# Altium schematic symbol library DC309A.SCHLIB: 110 symbols (part 1 of 3)
Pins are listed as number, name and electrical type; pins without a type are passive.

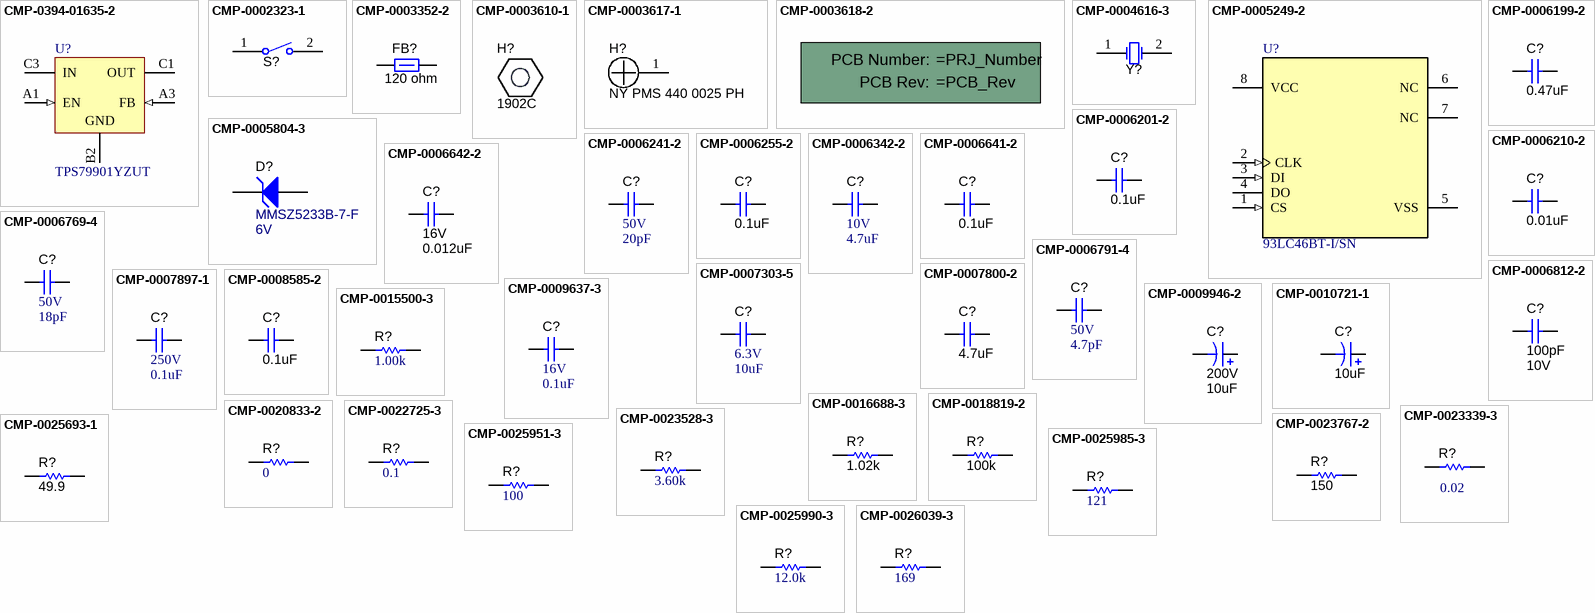
[diagram p0: symbols CMP-0394-01635-2 to CMP-0026039-3]

## CMP-0394-01635-2
designator U?, comment TPS79901YZUT
Single Output High PSRR LDO, 200 mA, Adjustable 1.2 to 6.5 V Output, 2.7 to 6.5 V Input, with Low IQ, 5-pin DSBGA (YZU), -40 to 85 degC, Green (RoHS & no Sb/Br); Manufacturer: Texas Instruments; Vdo(Typ)(mV): 90; Vin(Min)(V): 2.7; Iq(Typ)(mA): 0.04; Vout Adj(Max)(V): 6.5; Accuracy(%): 2; Vout Adj(Min)(V): 1.2; Iout(Max)(A): 0.2; SubFamily: Single Channel LDO; Rating: Catalog; Eco-Plan: Green (RoHS & no Sb/Br); ComponentLink4Description: URL Link1; DatasheetVersion: SBVS056J; ComponentLink3URL: http://www.ti.com/litv/pdf/mpds018i; PackageReference: YZU0005AEBC; PackageVersion: 4205678/D; Vin(Max)(V): 6.5; PackageDescription: 5-Pin Silicon Grid Array, Body 1.337 x 0.971 mm, Pitch 0.25 mm; PartNumber: TPS79901YZUT; ComponentLink2Description: Datasheet; ComponentLink3Description: Package Specification; ComponentLink4URL: Samples URL:http://www.ti.com/product/tps79901#samples; Mounting Technology: Surface Mount; ComponentLink2URL: http://www.ti.com/general/docs/lit/getliterature.tsp?genericPartNumber=TPS79901&fileType=pdf; ComponentLink1URL: http://www.ti.com/; ComponentLink1Description: Manufacturer URL
footprint YZU0005AEBC (BGA, 5-Balls, Body 1.332x0.964mm, Pitch 0.25mm)
pins: A1 EN (in) "Driving the enable pin (EN) high turns on the regulator.Driving this pin low puts the regulator into shutdown mode.EN can be connected to IN if not used.", A3 FB (in) "Adjustable version only;this pin is the input to the control loop error amplifier, and is used to set the output voltage of the device", B2 GND (power) "Ground.", C1 OUT (power) "Output of the regulator.A small capacitor (total typical capacitance >= 2.0uF ceramic) is needed from this pin to ground to assure stability.", C3 IN (power) "Input supply."

## CMP-0002323-1
designator S?, comment SW_SPST-single  (value not drawn)
Switch, SPST-NO, Off-Mom, 0.05 A, 12 VDC, SMD; PartNumber: EVQ-5PN04K; Manufacturer: Panasonic; SizeAreaWB_mm2: 50.6; SizeArea_mm2: 25.2; SizeX_mm: 7.2; SizeY_mm: 3.5; SizeZ_mm: 4.3; VDC_V: 12V; PositionCount: 1; CurrentRating_mA: 50A; MountType: SMT; ComponentLink1Description: Datasheet URL; ComponentLink1URL: http://industrial.panasonic.com/cdbs/www-data/pdf/ATK0000/ATK0000CE7.pdf; RoHS: Y; Circuit: SPST-NO; SwitchFunction: Off-Mom; Orientation: Top Actuated; CompType: Switch; PackageReference: 6x3.5mm; Publisher: Texas Instruments; LatestRevisionDate: 2017-03-09; Supplier 1: Digi-Key; Supplier Part Number 1: P13595SCT-ND; Supplier 2: Newark; Supplier Part Number 2: 83T2844; Supplier 3: Mouser; Supplier Part Number 3: 667-EVQ-5PN04K
footprint SW_EVQ5PN04K (SMD, 2-Leads, Body 6x3.5mm)
pins: 1, 2

## CMP-0003352-2
designator FB?, comment value 120 ohm  (hidden comment: Ferrite_Bead)
Ferrite Bead, 120 ohm @ 100 MHz, 3 A, 0603; PartNumber: BLM18SG121TN1D; Manufacturer: MuRata; Imax_A: 3A; DCR_ohm: 0.025; Value1: 0.025 ohm; ZTyp@100MHz_Ohm: 120; SizeArea_mm2: 1.28; SizeAreaWB_mm2: 4.68; SizeX_mm: 1.6; SizeY_mm: 0.8; SizeZ_mm: 1; CompType: Ferrite Bead; Value2: 3A; MountType: SMT; PackageReference: 0603; Published: 2014-04-30; Publisher: Texas Instruments; LatestRevisionDate: 2017-03-09; ComponentLink1Description: Datasheet link; ComponentLink1URL: http://search.murata.co.jp/Ceramy/image/img/PDF/ENG/L0110S0100BLM18S.pdf; RoHS: Y; Supplier 1: Digi-Key; Supplier Part Number 1: 490-3996-1-ND; Supplier 2: Newark; Supplier Part Number 2: 73M9122; Supplier 3: Mouser; Supplier Part Number 3: 81-BLM18SG121TN1D; ValueDisplayed: 120 ohm
footprint 0603 (0603 from SM-752 data)
footprint 0603_HV (Ernesto recommended land pattern.  26 mil between pads.)
footprint 0603L (0603 from SM-752 data)
footprint 0603S
footprint 0603M (0603 from SM-752 data)
pins: 1, 2

## CMP-0003610-1
designator H?, comment 1902C
Standoff, Hex, 0.5"L #4-40 Nylon; Manufacturer: Keystone; CompType: Hardware; MountType: N/A; RoHS: Y; PartNumber: 1902C; PackageReference: Standoff; ComponentLink1Description: Datasheet Link; ComponentLink1URL: http://www.keyelco.com/pdfs/M55-prod31.pdf; LatestRevisionDate: 2017-03-09; Publisher: Texas Instruments; Supplier 1: Digi-Key; Supplier Part Number 1: 36-1902C-ND; Key: 1902C
footprint Keystone_1902C (Hex Standoff, 4-40 threaded, nylon)

## CMP-0003617-1
designator H?, comment NY PMS 440 0025 PH
Machine Screw, Round, #4-40 x 1/4, Nylon, Philips panhead; Manufacturer: B&F Fastener Supply; CompType: Hardware; MountType: N/A; RoHS: Y; PartNumber: NY PMS 440 0025 PH; PackageReference: Screw; ComponentLink1Description: Datasheet Link; ComponentLink1URL: http://www.fasnetdirect.com/refguide/Nylpanms.pdf; ClassName: Mounting Holes; LatestRevisionDate: 2017-03-09; Publisher: Texas Instruments; Supplier 1: Digi-Key; Supplier Part Number 1: H542-ND; Key: NY PMS 440 0025 PH
footprint NY PMS 440 0025 PH (4-40 nylon screw and mounting hole)
footprint NY PMS 440 0025 PH_3Donly (4-40 nylon screw)
pins: 1

## CMP-0003618-2
designator !PCB?, comment Printed Circuit Board  (value not drawn)  (mechanical)
Manufacturer: Any; CompType: PCB; PartNumber: =PRJ_Number; RoHS: O; MountType: N/A; Publisher: Texas Instruments; LatestRevisionDate: 2017-03-09; Key: PCB
1 alternate drawing of the same symbol
text: PCB Number:; PCB Rev:

## CMP-0004616-3
designator Y?, comment ABM3-12.000MHZ-D2Y-T  (value not drawn)
Crystal, 12 MHz, 18 pF, SMD; Manufacturer: Abracon Corporation; TaMin_C: -40°C; Frequency Stability: +/-30ppm; Frequency_Fixed: 12MHz; TaMax_C: 85°C; Supplier Part Number 2: 76R7517; Supplier 2: Newark; Supplier Part Number 3: 815-ABM3-12-D2Y-T; Supplier 3: Mouser; RoHS: E; MountType: SMT; Supplier 1: Digi-Key; PackageReference: ABM3; CompType: Crystal; PartNumber: ABM3-12.000MHZ-D2Y-T; ComponentLink1Description: Datasheet Link; Supplier Part Number 1: 535-10634-1-ND; ComponentLink1URL: http://www.abracon.com/Resonators/abm3.pdf; REACh: Y
footprint XTAL_ABM3 (Abracon recommended land pattern 12.28.10)
pins: 1 OSC1, 2 OSC2

## CMP-0005249-2
designator U?, comment 93LC46BT-I/SN
1K Microwire Compatible Serial EEPROM; Manufacturer: Microchip; SizeAreaWB_mm2: 55.131; SizeZ_mm: 1.75; SizeX_mm: 5.99; SizeY_mm: 4.9; SizeArea_mm2: 29.351; Supplier Part Number 2: 75M3690; Publisher: Texas Instruments; Supplier 2: Newark; Supplier Part Number 3: 579-93LC46BT-I/SN; Supplier 3: Mouser; RoHS: Y; MountType: SMT; Supplier 1: Digi-Key; PackageReference: SOIC-8; LatestRevisionDate: 09/03/2017; PartNumber: 93LC46BT-I/SN; ComponentLink1Description: Datasheet URL; Supplier Part Number 1: 93LC46BT-I/SNCT-ND; ComponentLink1URL: http://ww1.microchip.com/downloads/en/DeviceDoc/20001749K.pdf
footprint SOIC-8 (duplicate of SO-8.  SOIC, 8-Leads, Body 5.0x4.0mm (max), Pitch 1.27mm, IPC Medium Density)
footprint SOIC-8L (Duplicate of SO-8.  SOIC, 8-Leads, Body 5.0x4.0mm (max), Pitch 1.27mm, IPC Most Density)
footprint SOIC-8M (Duplicate of SO-8M.  SOIC, 8-Leads, Body 5.0x4.0mm (max), Pitch 1.27mm, IPC Least Density)
pins: 1 CS (in), 2 CLK (in), 3 DI (in), 4 DO (hiz), 5 VSS (power), 6 NC, 7 NC, 8 VCC (power)

## CMP-0005804-3
designator D?, comment MMSZ5233B-7-F  value 6V
Diode, Zener, 6 V, 500 mW, SOD-123; Manufacturer: Diodes Inc.; Power_W: 500mW; SizeAreaWB_mm2: 13.095; Value1: 0.5W; RJA_CperW: 350; SizeZ_mm: 1.35; SizeX_mm: 3.85; SizeY_mm: 1.7; SizeArea_mm2: 6.545; AEC Category: Q101; ComponentLink1URL: http://www.diodes.com/datasheets/ds18010.pdf; Vz_V: 6V; RoHS: Y; MountType: SMT; PackageReference: SOD-123; CompType: Zener; PartNumber: MMSZ5233B-7-F; AEC Qualified: ?; ComponentLink1Description: Datasheet link
footprint SOD-123 (On Semi recommended land pattern)
pins: 1 K, 2 A

## CMP-0006199-2
designator C?, comment ValueDisplayed: 0.47uF  (hidden comment: Capacitor)
CAP, CERM, 0.47 uF, 6.3 V, +/- 10%, X5R, 0402; PartNumber: 04026D474KAT2A; Manufacturer: AVX; Polarized: N; Value: 0.47uF; U/M: EA; Cap_F: 470nF; Value1: Unknown; VDC_V: 6.3V; TaMin_C: -55°C; TaMax_C: 85°C; Cap_Case: 0402; SizeArea_mm2: 0.5; SizeAreaWB_mm2: 3; SizeX_mm: 1; SizeZ_mm: 0.6; AEC Category: Q200; CompType: Capacitor; PackageReference: 0402; RoHS: Y; Tolerance_%: 10%; Value2: 6.3V; MountType: SMT; Technology: Ceramic; TempCo: X5R; SizeY_mm: 0.5; Published: 2008-06-19; Publisher: Texas Instruments; LatestRevisionDate: 2017-03-09; ComponentLink1Description: Datasheet link; ComponentLink1URL: http://catalogs.avx.com/SurfaceMount.pdf; Supplier 1: Digi-Key; Supplier Part Number 1: 478-6196-1-ND; Supplier 2: Newark; Supplier Part Number 2: 60R6163; Supplier 3: Mouser; Supplier Part Number 3: 581-04026D474KAT2A; AEC Qualified: N; AEC Grade: N/A
footprint 0402 (0402 from SM-752 data)
footprint 0402S (Based on C0402S footprint from PADS legacy)
footprint 0402L (0402 from SM-752 data)
footprint 0402M (0402 from SM-752 data)
pins: 1, 2

## CMP-0006201-2
designator C?, comment ValueDisplayed: 0.1uF  (hidden comment: Capacitor)
CAP, CERM, 0.1 uF, 16 V, +/- 10%, X7R, 0402; PartNumber: 0402YC104KAT2A; Manufacturer: AVX; Polarized: N; Value: 0.1uF; U/M: EA; Cap_F: 100nF; Value1: Unknown; VDC_V: 16V; TaMin_C: -55°C; TaMax_C: 125°C; Cap_Case: 0402; SizeArea_mm2: 0.5; SizeAreaWB_mm2: 3; SizeX_mm: 1; SizeZ_mm: 0.6; AEC Category: Q200; CompType: Capacitor; PackageReference: 0402; RoHS: Y; Tolerance_%: 10%; Value2: 16V; MountType: SMT; Technology: Ceramic; TempCo: X7R; SizeY_mm: 0.5; Published: 2008-06-19; Publisher: Texas Instruments; LatestRevisionDate: 2017-03-09; ComponentLink1Description: Datasheet link; ComponentLink1URL: http://catalogs.avx.com/SurfaceMount.pdf; Supplier 1: Digi-Key; Supplier Part Number 1: 478-7888-1-ND; Supplier 2: Newark; Supplier Part Number 2: 09R7024; Supplier 3: Mouser; Supplier Part Number 3: 581-0402YC104KAT2A; AEC Qualified: N; AEC Grade: N/A
footprint 0402 (0402 from SM-752 data)
footprint 0402S (Based on C0402S footprint from PADS legacy)
footprint 0402L (0402 from SM-752 data)
footprint 0402M (0402 from SM-752 data)
pins: 1, 2

## CMP-0006210-2
designator C?, comment ValueDisplayed: 0.01uF  (hidden comment: 520L103KT16T)
CAP, CERM, 0.01 uF, 16 V, +/- 10%, X7R, 0402; Manufacturer: AT Ceramics; TaMin_C: -55°C; Polarized: N; SizeAreaWB_mm2: 3; Value1: Unknown; U/M: EA; Value: 0.01uF; TaMax_C: 125°C; SizeZ_mm: 0.65; SizeX_mm: 1; SizeY_mm: 0.5; Cap_Case: 0402; Value2: 16V; CompType: Capacitor; Cap_F: 10nF; AEC Category: Q200; Supplier Part Number 2: 581-520L103KT16T; Publisher: Texas Instruments; Supplier 2: Mouser; TempCo: X7R; Published: 2008-06-19; RoHS: Y; MountType: SMT; Supplier 1: Digi-Key; PackageReference: 0402; Tolerance_%: 10%; SizeArea_mm2: 0.5; LatestRevisionDate: 2017-03-09; PartNumber: 520L103KT16T; AEC Qualified: N; VDC_V: 16V; ComponentLink1Description: Datasheet link; AEC Grade: N/A; Supplier Part Number 1: 1284-1540-1-ND; Technology: Ceramic; ComponentLink1URL: https://www.atceramics.com/UserFiles/520l.pdf
footprint 0402_065 (0402)
footprint 0402_065S (Based on C0402S footprint from PADS legacy)
footprint 0402_065L (0402)
footprint 0402_065M (0402)
pins: 1, 2

## CMP-0006241-2
designator C?, comment VDC_V: 50V  ValueDisplayed: 20pF  (hidden comment: C0402C200J5GACTU)
CAP, CERM, 20 pF, 50 V, +/- 5%, C0G/NP0, 0402; Manufacturer: Kemet; TaMin_C: -55°C; Polarized: N; SizeAreaWB_mm2: 3; Value1: Unknown; U/M: EA; Value: 20pF; TaMax_C: 125°C; SizeZ_mm: 0.6; SizeX_mm: 1; SizeY_mm: 0.5; Cap_Case: 0402; CompType: Capacitor; AEC Category: Q200; Supplier Part Number 2: 29T8938; Publisher: Texas Instruments; Supplier 2: Newark; Supplier Part Number 3: 80-C0402C200J5G; TempCo: C0G/NP0; Supplier 3: Mouser; Published: 2008-06-19; RoHS: Y; MountType: SMT; Supplier 1: Digi-Key; PackageReference: 0402; Tolerance_%: 5%; Value2: 50V; SizeArea_mm2: 0.5; LatestRevisionDate: 2017-03-09; PartNumber: C0402C200J5GACTU; AEC Qualified: N; Cap_F: 20pF; ComponentLink1Description: Datasheet link; AEC Grade: N/A; Supplier Part Number 1: 399-7773-1-ND; Technology: Ceramic; ComponentLink1URL: http://www.kemet.com/docfinder?Partnumber=C0402C200J5GACTU
footprint 0402 (0402 from SM-752 data)
footprint 0402S (Based on C0402S footprint from PADS legacy)
footprint 0402L (0402 from SM-752 data)
footprint 0402M (0402 from SM-752 data)
pins: 1, 2

## CMP-0006255-2
designator C?, comment ValueDisplayed: 0.1uF  (hidden comment: Capacitor)
CAP, CERM, 0.1 uF, 6.3 V, +/- 10%, X5R, 0402; PartNumber: C1005X5R0J104K050BA; Manufacturer: TDK; Polarized: N; Value: 0.1uF; U/M: EA; Cap_F: 100nF; ESR_ohm: 0.0186; Value1: 0.0186 ohm; VDC_V: 6.3V; TaMin_C: -55°C; TaMax_C: 85°C; Cap_Case: 0402; SizeArea_mm2: 0.5; SizeAreaWB_mm2: 3; SizeX_mm: 1; SizeZ_mm: 0.6; AEC Category: Q200; CompType: Capacitor; PackageReference: 0402; RoHS: Y; Tolerance_%: 10%; Value2: 6.3V; MountType: SMT; Technology: Ceramic; TempCo: X5R; SizeY_mm: 0.5; Published: 2008-06-19; Publisher: Texas Instruments; LatestRevisionDate: 2017-03-09; ComponentLink1Description: Datasheet link; ComponentLink1URL: http://www.tdk.co.jp/tefe02/e412_c.pdf; Supplier 1: Digi-Key; Supplier Part Number 1: 445-1266-1-ND; Supplier 2: Newark; Supplier Part Number 2: 90R7579; Supplier 3: Mouser; Supplier Part Number 3: 810-C1005X5R0J104K; AEC Qualified: ?
footprint 0402 (0402 from SM-752 data)
footprint 0402S (Based on C0402S footprint from PADS legacy)
footprint 0402L (0402 from SM-752 data)
footprint 0402M (0402 from SM-752 data)
pins: 1, 2

## CMP-0006342-2
designator C?, comment VDC_V: 10V  ValueDisplayed: 4.7uF  (hidden comment: CL05A475MP5NRNC)
CAP, CERM, 4.7 uF, 10 V, +/- 20%, X5R, 0402; Manufacturer: Samsung Electro-Mechanics; TaMin_C: -55°C; Polarized: N; SizeAreaWB_mm2: 3; Value1: Unknown; U/M: EA; Value: 4.7uF; TaMax_C: 85°C; SizeZ_mm: 0.6; SizeX_mm: 1; SizeY_mm: 0.5; Cap_Case: 0402; CompType: Capacitor; Cap_F: 4.7µF; AEC Category: Q200; Publisher: Texas Instruments; TempCo: X5R; Published: 2008-06-19; RoHS: Y; MountType: SMT; PackageReference: 0402; Tolerance_%: 20%; Value2: 10V; SizeArea_mm2: 0.5; LatestRevisionDate: 2017-03-09; PartNumber: CL05A475MP5NRNC; AEC Qualified: ?; ComponentLink1Description: Datasheet link; Technology: Ceramic; ComponentLink1URL: http://www.samsungsem.com/servlet/FileDownload?type=spec&file=CL05A475MP5NRNC.pdf
footprint 0402 (0402 from SM-752 data)
footprint 0402S (Based on C0402S footprint from PADS legacy)
footprint 0402L (0402 from SM-752 data)
footprint 0402M (0402 from SM-752 data)
pins: 1, 2

## CMP-0006641-2
designator C?, comment value 0.1uF  (hidden comment: Capacitor)
CAP, CERM, 0.1 uF, 16 V, +/- 10%, X7R, 0402; PartNumber: GRM155R71C104KA88D; Manufacturer: MuRata; Polarized: N; U/M: EA; Cap_F: 100nF; Value1: Unknown; VDC_V: 16V; TaMin_C: -55°C; TaMax_C: 125°C; Cap_Case: 0402; AEC Category: Q200; SizeArea_mm2: 0.5; SizeAreaWB_mm2: 3; SizeX_mm: 1; SizeZ_mm: 0.6; CompType: Capacitor; PackageReference: 0402; RoHS: Y; MountType: SMT; ComponentLink1Description: Datasheet link; ComponentLink1URL: http://search.murata.co.jp/Ceramy/PnsearchViewAction.do?HnOFG=ON&HnNFG=ON&SEL_CNT=50&sLang=en&sKey=GRM155R71C104KA88D&x=9&y=9&search=startwith; ValueDisplayed: 0.1uF; Tolerance_%: 10%; Value2: 16V; Technology: Ceramic; TempCo: X7R; Published: 2008-06-19; Publisher: Texas Instruments; LatestRevisionDate: 2017-03-09; Supplier 1: Digi-Key; Supplier Part Number 1: 490-3261-1-ND; Supplier 2: Newark; Supplier Part Number 2: 38K1647; Supplier 3: Mouser; Supplier Part Number 3: 81-GRM155R71C104KA88; AEC Qualified: ?; SizeY_mm: 0.5
footprint 0402 (0402 from SM-752 data)
footprint 0402S (Based on C0402S footprint from PADS legacy)
footprint 0402L (0402 from SM-752 data)
footprint 0402M (0402 from SM-752 data)
pins: 1, 2

## CMP-0006642-2
designator C?, comment VDC_V: 16V  ValueDisplayed: 0.012uF  (hidden comment: GRM155R71C123KA01D)
CAP, CERM, 0.012 uF, 16 V, +/- 10%, X7R, 0402; Manufacturer: MuRata; TaMin_C: -55°C; Polarized: N; SizeAreaWB_mm2: 3; Value1: Unknown; U/M: EA; TaMax_C: 125°C; SizeZ_mm: 0.6; SizeX_mm: 1; SizeY_mm: 0.5; Cap_Case: 0402; CompType: Capacitor; Cap_F: 12nF; AEC Category: Q200; Supplier Part Number 2: 81-GRM155R71C123KA1D; Publisher: Texas Instruments; Supplier 2: Mouser; TempCo: X7R; Published: 2008-06-19; RoHS: Y; MountType: SMT; Value: 0.012uF; Supplier 1: Digi-Key; PackageReference: 0402; Tolerance_%: 10%; Value2: 16V; SizeArea_mm2: 0.5; LatestRevisionDate: 2017-03-09; PartNumber: GRM155R71C123KA01D; AEC Qualified: ?; ComponentLink1Description: Datasheet link; Supplier Part Number 1: 490-3255-1-ND; Technology: Ceramic; ComponentLink1URL: http://search.murata.co.jp/Ceramy/PnsearchViewAction.do?HnOFG=ON&HnNFG=ON&SEL_CNT=50&sLang=en&sKey=GRM155R71C123KA01D&x=9&y=9&search=startwith
footprint 0402 (0402 from SM-752 data)
footprint 0402S (Based on C0402S footprint from PADS legacy)
footprint 0402L (0402 from SM-752 data)
footprint 0402M (0402 from SM-752 data)
pins: 1, 2

## CMP-0006769-4
designator C?, comment VDC_V: 50V  ValueDisplayed: 18pF  (hidden comment: 06035A180JAT2A)
CAP, CERM, 18 pF, 50 V, +/- 5%, C0G/NP0, 0603; Manufacturer: AVX; TaMin_C: -55°C; ESR_ohm: 0.289; Polarized: N; SizeAreaWB_mm2: 4.68; Value1: 0.289 ohm; U/M: EA; Value: 18pF; TaMax_C: 125°C; SizeZ_mm: 1; SizeX_mm: 1.6; SizeY_mm: 0.8; Cap_Case: 0603; SizeArea_mm2: 1.28; CompType: Capacitor; AEC Category: Q200; Supplier Part Number 2: 17C6481; Publisher: Texas Instruments; Supplier 2: Newark; Supplier Part Number 3: 581-06035A180J; TempCo: C0G/NP0; Supplier 3: Mouser; Published: 2008-06-19; RoHS: Y; MountType: SMT; Supplier 1: Digi-Key; PackageReference: 0603; Tolerance_%: 5%; Value2: 50V; LatestRevisionDate: 2017-03-09; PartNumber: 06035A180JAT2A; AEC Qualified: N; Cap_F: 18pF; ComponentLink1Description: Datasheet link; AEC Grade: N/A; Supplier Part Number 1: 478-1166-1-ND; Technology: Ceramic; ComponentLink1URL: http://datasheets.avx.com/C0GNP0-Dielectric.pdf
footprint 0603 (0603 from SM-752 data)
footprint 0603_HV (Ernesto recommended land pattern.  26 mil between pads.)
footprint 0603L (0603 from SM-752 data)
footprint 0603S
footprint 0603M (0603 from SM-752 data)
pins: 1, 2

## CMP-0006791-4
designator C?, comment VDC_V: 50V  ValueDisplayed: 4.7pF  (hidden comment: 06035A4R7CAT2A)
CAP, CERM, 4.7 pF, 50 V, +/- 5%, C0G/NP0, 0603; Manufacturer: AVX; TaMin_C: -55°C; ESR_ohm: 0.633; Polarized: N; SizeAreaWB_mm2: 4.68; Value1: 0.633 ohm; U/M: EA; Value: 4.7pF; TaMax_C: 125°C; SizeZ_mm: 1; SizeX_mm: 1.6; SizeY_mm: 0.8; Cap_Case: 0603; SizeArea_mm2: 1.28; CompType: Capacitor; AEC Category: Q200; Supplier Part Number 2: 581-06035A4R7C; Publisher: Texas Instruments; Supplier 2: Mouser; Supplier Part Number 3: 1833866; TempCo: C0G/NP0; Supplier 3: Farnell; Published: 2008-06-19; RoHS: Y; MountType: SMT; Supplier 1: Digi-Key; PackageReference: 0603; Tolerance_%: 5%; Value2: 50V; LatestRevisionDate: 2017-03-09; PartNumber: 06035A4R7CAT2A; AEC Qualified: N; Cap_F: 4.7pF; ComponentLink1Description: Datasheet link; AEC Grade: N/A; Supplier Part Number 1: 478-1159-1-ND; Technology: Ceramic; ComponentLink1URL: http://datasheets.avx.com/C0GNP0-Dielectric.pdf
footprint 0603 (0603 from SM-752 data)
footprint 0603_HV (Ernesto recommended land pattern.  26 mil between pads.)
footprint 0603L (0603 from SM-752 data)
footprint 0603S
footprint 0603M (0603 from SM-752 data)
pins: 1, 2

## CMP-0006812-2
designator C?, comment Cap_F: 100pF  VDC_V: 10V  (hidden comment: 0603ZC101KAT2A)
CAP, CERM, 100 pF, 10 V, +/- 10%, X7R, 0603; Manufacturer: AVX; TaMin_C: -55°C; Polarized: N; SizeAreaWB_mm2: 4.68; Value1: Unknown; U/M: EA; Value: 100pF; TaMax_C: 125°C; SizeZ_mm: 1; SizeX_mm: 1.6; SizeY_mm: 0.8; Cap_Case: 0603; SizeArea_mm2: 1.28; CompType: Capacitor; AEC Category: Q200; Supplier Part Number 2: 55J2751; Publisher: Texas Instruments; Supplier 2: Newark; Supplier Part Number 3: 581-0603ZC101KAT2A; TempCo: X7R; Supplier 3: Mouser; Published: 2008-06-19; RoHS: Y; MountType: SMT; Supplier 1: Digi-Key; PackageReference: 0603; Tolerance_%: 10%; Value2: 10V; LatestRevisionDate: 2017-03-09; PartNumber: 0603ZC101KAT2A; AEC Qualified: N; ComponentLink1Description: Datasheet link; AEC Grade: N/A; Supplier Part Number 1: 0603ZC101KAT2A-ND; Technology: Ceramic; ValueDisplayed: 100pF; ComponentLink1URL: http://datasheets.avx.com/X7RDielectric.pdf
footprint 0603 (0603 from SM-752 data)
footprint 0603_HV (Ernesto recommended land pattern.  26 mil between pads.)
footprint 0603L (0603 from SM-752 data)
footprint 0603S
footprint 0603M (0603 from SM-752 data)
pins: 1, 2

## CMP-0007303-5
designator C?, comment VDC_V: 6.3V  ValueDisplayed: 10uF  (hidden comment: GRM188R60J106ME47D)
CAP, CERM, 10 uF, 6.3 V, +/- 20%, X5R, 0603; Manufacturer: MuRata; TaMin_C: -55°C; ESR_ohm: 9m; Polarized: N; SizeAreaWB_mm2: 4.68; Value1: 0.009 ohm; U/M: EA; Value: 10uF; TaMax_C: 125°C; SizeZ_mm: 1; SizeX_mm: 1.6; SizeY_mm: 0.8; Cap_Case: 0603; SizeArea_mm2: 1.28; CompType: Capacitor; Cap_F: 10µF; IRMS_A: 2.74A; AEC Category: Q200; Supplier Part Number 2: 81-GRM188R60J106ME47; Publisher: Texas Instruments; Supplier 2: Mouser; Supplier Part Number 3: 1735528; TempCo: X5R; Supplier 3: Farnell; Published: 2008-06-19; RoHS: Y; MountType: SMT; Supplier 1: Digi-Key; PackageReference: 0603; Tolerance_%: 20%; Value2: 6.3V; LatestRevisionDate: 2017-03-09; PartNumber: GRM188R60J106ME47D; AEC Qualified: ?; ComponentLink1Description: Datasheet link; Supplier Part Number 1: 490-3896-1-ND; Technology: Ceramic; ComponentLink1URL: http://www.murata.com/products/capacitor/tech_data/pdf/grm188r60j106m.pdf
footprint 0603 (0603 from SM-752 data)
footprint 0603_HV (Ernesto recommended land pattern.  26 mil between pads.)
footprint 0603L (0603 from SM-752 data)
footprint 0603S
footprint 0603M (0603 from SM-752 data)
pins: 1, 2

## CMP-0007800-2
designator C?, comment ValueDisplayed: 4.7uF  (hidden comment: Capacitor)
CAP, CERM, 4.7 uF, 25 V, +/- 10%, X5R, 0805; PartNumber: C0805C475K3PACTU; Manufacturer: Kemet; Polarized: N; Value: 4.7uF; U/M: EA; Cap_F: 4.7µF; Value1: Unknown; VDC_V: 25V; TaMin_C: -55°C; TaMax_C: 85°C; Cap_Case: 0805; SizeArea_mm2: 2.5; SizeAreaWB_mm2: 6.75; SizeX_mm: 2; SizeY_mm: 1.25; SizeZ_mm: 1.45; AEC Category: Q200; CompType: Capacitor; PackageReference: 0805; RoHS: Y; Tolerance_%: 10%; Value2: 25V; MountType: SMT; Technology: Ceramic; TempCo: X5R; Published: 2008-06-19; Publisher: Texas Instruments; LatestRevisionDate: 2017-03-09; ComponentLink1Description: Datasheet link; ComponentLink1URL: http://www.kemet.com/docfinder?Partnumber=C0805C475K3PACTU; Supplier 1: Digi-Key; Supplier Part Number 1: 399-5505-1-ND; Supplier 2: Newark; Supplier Part Number 2: 01N5605; Supplier 3: Mouser; Supplier Part Number 3: 80-C0805C475K3P; AEC Qualified: N; AEC Grade: N/A
footprint 0805_HV (0805 with 30mil clearance between pads)
footprint 0805M (0805 from SM-752 data)
footprint 0805 (0805 from SM-752 data)
footprint 0805L (0805 from SM-752 data)
footprint 0805_HV1 (Custom footprint based on analyzing multiple manufacturer recommendations)
footprint 0402
pins: 1, 2

## CMP-0007897-1
designator C?, comment VDC_V: 250V  ValueDisplayed: 0.1uF  (hidden comment: C2012X7T2E104K125AA)
CAP, CERM, 0.1 uF, 250 V, +/- 10%, X7T, 0805; Manufacturer: TDK; TaMin_C: -55°C; Polarized: N; SizeAreaWB_mm2: 6.75; Value1: Unknown; U/M: EA; Value: 0.1uF; TaMax_C: 125°C; SizeZ_mm: 1.45; SizeX_mm: 2; SizeY_mm: 1.25; Cap_Case: 0805; SizeArea_mm2: 2.5; CompType: Capacitor; Cap_F: 100nF; AEC Category: Q200; ComponentLink1URL: http://product.tdk.com/en/catalog/spec/mlccspec_commercial_general_midvoltage_en.pdf; Supplier Part Number 2: 51T2714; Publisher: Texas Instruments; Supplier 2: Newark; Supplier Part Number 3: 810-C2012X7T2E104KAA; TempCo: X7T; Supplier 3: Mouser; Published: 2008-06-19; RoHS: Y; MountType: SMT; Supplier 1: Digi-Key; PackageReference: 0805; Tolerance_%: 10%; Value2: 250V; LatestRevisionDate: 2017-03-09; PartNumber: C2012X7T2E104K125AA; AEC Qualified: N; ComponentLink1Description: Datasheet link; AEC Grade: N/A; Supplier Part Number 1: 445-7749-1-ND; Technology: Ceramic
footprint 0805_HV (0805 with 30mil clearance between pads)
footprint 0805M (0805 from SM-752 data)
footprint 0805 (0805 from SM-752 data)
footprint 0805L (0805 from SM-752 data)
footprint 0805_HV1 (Custom footprint based on analyzing multiple manufacturer recommendations)
pins: 1, 2

## CMP-0008585-2
designator C?, comment ValueDisplayed: 0.1uF  (hidden comment: Capacitor)
CAP, CERM, 0.1 uF, 200 V, +/- 10%, X7R, 1206; PartNumber: C1206C104K2RACTU; Manufacturer: Kemet; Polarized: N; Value: 0.1uF; U/M: EA; Cap_F: 100nF; Value1: Unknown; VDC_V: 200V; TaMin_C: -55°C; TaMax_C: 125°C; Cap_Case: 1206; SizeArea_mm2: 5.12; SizeAreaWB_mm2: 10.92; SizeX_mm: 3.2; SizeY_mm: 1.6; SizeZ_mm: 1.35; AEC Category: Q200; CompType: Capacitor; PackageReference: 1206; RoHS: Y; Tolerance_%: 10%; Value2: 200V; MountType: SMT; Technology: Ceramic; TempCo: X7R; Published: 2008-06-19; Publisher: Texas Instruments; LatestRevisionDate: 2017-03-09; ComponentLink1Description: Datasheet link; ComponentLink1URL: http://www.kemet.com/docfinder?Partnumber=C1206C104K2RACTU; Supplier 1: Digi-Key; Supplier Part Number 1: 399-8139-1-ND; Supplier 2: Newark; Supplier Part Number 2: 36X2787; Supplier 3: Mouser; Supplier Part Number 3: 80-C1206C104K2R; AEC Qualified: N; AEC Grade: N/A
footprint 1206 (1206 from SM-752 data)
footprint 1206L (1206 from SM-752 data)
footprint 1206M (1206 from SM-752 data)
pins: 1, 2

## CMP-0009637-3
designator C?, comment VDC_V: 16V  ValueDisplayed: 0.1uF  (hidden comment: C0603X6S1C104K030BC)
CAP, CERM, 0.1 uF, 16 V, +/- 10%, X6S, 0201; Manufacturer: TDK; TaMin_C: -55°C; Polarized: N; SizeAreaWB_mm2: 2.08; Value1: Unknown; U/M: EA; Value: 0.1uF; TaMax_C: 105°C; SizeZ_mm: 0.33; SizeX_mm: 0.6; SizeY_mm: 0.3; Cap_Case: 0201; SizeArea_mm2: 0.18; CompType: Capacitor; Cap_F: 100nF; AEC Category: Q200; ComponentLink1URL: http://product.tdk.com/en/catalog/datasheets/mlcc_commercial_general_en.pdf; Supplier Part Number 2: 17X8592; Publisher: Texas Instruments; Supplier 2: Newark; Supplier Part Number 3: 810-C0603X6S1C104KBC; TempCo: X6S; Supplier 3: Mouser; Published: 2008-06-19; RoHS: Y; MountType: SMT; Supplier 1: Digi-Key; PackageReference: 0201; Tolerance_%: 10%; Value2: 16V; LatestRevisionDate: 2017-03-09; PartNumber: C0603X6S1C104K030BC; AEC Qualified: N; ComponentLink1Description: Datasheet link; AEC Grade: N/A; Supplier Part Number 1: 445-15903-1-ND; Technology: Ceramic
footprint 0201_033 (SMD, 2-Leads, Height 0.33mm)
footprint 0201_033L (0201)
footprint 0201_033M (0201)
pins: 1, 2

## CMP-0009946-2
designator C?, comment VDC_V: 200V  ValueDisplayed: 10uF  (hidden comment: 200LLE10MEFC8X11.5)
CAP, AL, 10 uF, 200 V, +/- 20%, TH; Manufacturer: Rubycon; TaMin_C: -40°C; Polarized: Y; SizeAreaWB_mm2: 100; Value1: Unknown; U/M: EA; Value: 10uF; TaMax_C: 105°C; SizeZ_mm: 13; SizeX_mm: 8; Cap_Case: Radial 8x11.5mm; SizeArea_mm2: 64; CompType: Capacitor; AEC Qualified: N; Cap_F: 10µF; IRMS_A: 80mA; AEC Category: Q200; Supplier Part Number 2: 43W3997; Publisher: Texas Instruments; Supplier 2: Newark; RoHS: Y; MountType: TH; Supplier 1: Digi-Key; PackageReference: RCAP_8x11.5mm; Tolerance_%: 20%; SizeY_mm: 8; Value2: 200V; LatestRevisionDate: 2017-03-09; PartNumber: 200LLE10MEFC8X11.5; Series: LLE; ComponentLink1Description: Datasheet link; AEC Grade: N/A; Supplier Part Number 1: 1189-1175-ND; Technology: AL; ComponentLink1URL: http://www.rubycon.co.jp/en/catalog/e_pdfs/aluminum/e_lle.pdf
footprint CAPPRD350W60D800H1150 (Based on Nichicon L8 series)
pins: 1 +, 2 -

## CMP-0010721-1
designator C?, comment ValueDisplayed: 10uF  (hidden comment: Cap_Polarized)
CAP, AL, 10 uF, 35 V, +/- 20%, 0.7 ohm, AEC-Q200 Grade 2, SMD; PartNumber: EEE-FK1V100R; Manufacturer: Panasonic; Polarized: Y; CompType: Capacitor; Value: 10uF; U/M: EA; Cap_F: 10µF; Value1: 0.7 ohm; VDC_V: 35V; ESR_ohm: 7d; IRMS_A: 1.6dA; TaMin_C: -55°C; TaMax_C: 105°C; Cap_Case: C; SizeAreaWB_mm2: 62.05; SizeArea_mm2: 34.45; SizeX_mm: 6.5; SizeY_mm: 5.3; SizeZ_mm: 5.4; AEC Category: Q200; AEC Grade: 2; PackageReference: SMT Radial C; RoHS: Y; Tolerance_%: 20%; Value2: 35V; MountType: SMT; Technology: AL; Series: FK; Publisher: Texas Instruments; LatestRevisionDate: 2017-03-09; ComponentLink1Description: Datasheet link; ComponentLink1URL: https://industrial.panasonic.com/cdbs/www-data/pdf/RDE0000/ABA0000C1181.pdf; Supplier 1: Digi-Key; Supplier Part Number 1: PCE3833CT-ND; Supplier 2: Mouser; Supplier Part Number 2: 667-EEE-FK1V100R; Supplier 3: Farnell; Supplier Part Number 3: 1850112; AEC Qualified: Y
footprint SM_RADIAL_C (5 x 5.8mm:  Panasonic C)
pins: 1 +, 2 -

## CMP-0015500-3
designator R?, comment ValueDisplayed: 1.00k  (hidden comment: CRCW25121K00FKEG)
RES, 1.00 k, 1%, 1 W, AEC-Q200 Grade 0, 2512; Manufacturer: Vishay-Dale; Power_W: 1W; TempCo: 100 ppm/C; Value_Code: 1k00; Value: 1.00k; EIA_Code: E96; Res_ohm: 1k; SizeX_mm: 6.3; SizeY_mm: 3.2; SizeZ_mm: 0.71; SizeArea_mm2: 20.16; CompType: Resistor; AEC Qualified: Y; VDC_V: 500V; AEC Grade: 0; AEC Category: Q200; ComponentLink1URL: http://www.vishay.com/docs/20035/dcrcwe3.pdf; RoHS: E; Value1: 1%; MountType: SMT; Supplier 1: Digi-Key; PackageReference: 2512; Tolerance_%: 1%; Value2: 1W; PartNumber: CRCW25121K00FKEG; ComponentLink1Description: Datasheet link; Supplier Part Number 1: 541-1.00KAFCT-ND; Technology: Thick Film
footprint 2512 (Chip Resistor, Body 6.3x3.2mm, IPC Medium Density)
footprint 2512L (Chip Resistor, Body 6.3x3.2mm, IPC High Density)
footprint 2512M (Chip Resistor, Body 6.3x3.2mm, IPC Low Density)
pins: 1, 2

## CMP-0016688-3
designator R?, comment ValueDisplayed: 1.02k  (hidden comment: Resistor)
RES, 1.02 k, 1%, 0.25 W, AEC-Q200 Grade 0, 1206; PartNumber: CRCW12061K02FKEA; Manufacturer: Vishay-Dale; Value: 1.02k; Value_Code: 1k02; Power_W: 250mW; Value2: 0.25W; VDC_V: 200V; TempCo: 100 ppm/C; SizeArea_mm2: 5.12; SizeX_mm: 3.2; SizeY_mm: 1.6; SizeZ_mm: 1.35; EIA_Code: E96; AEC Category: Q200; AEC Qualified: Y; AEC Grade: 0; CompType: Resistor; PackageReference: 1206; RoHS: E; Res_ohm: 1.02k; Tolerance_%: 1%; Value1: 1%; MountType: SMT; Technology: Thick Film; ComponentLink1Description: Datasheet link; ComponentLink1URL: http://www.vishay.com/docs/20035/dcrcwe3.pdf; Supplier 1: Digi-Key; Supplier Part Number 1: 541-1.02KFCT-ND; Supplier 2: Newark; Supplier Part Number 2: 53K1782; Supplier 3: Mouser; Supplier Part Number 3: 71-CRCW1206-1.02K-E3
footprint 1206 (1206 from SM-752 data)
footprint 1206L (1206 from SM-752 data)
footprint 1206M (1206 from SM-752 data)
pins: 1, 2

## CMP-0018819-2
designator R?, comment ValueDisplayed: 100k  (hidden comment: Resistor)
RES, 100 k, 0.1%, 0.25 W, AEC-Q200 Grade 1, 1206; PartNumber: TNPW1206100KBEEA; Manufacturer: Vishay-Dale; Value: 100k; Power_W: 250mW; Value2: 0.25W; VDC_V: 200V; TempCo: 25 ppm/C; SizeArea_mm2: 5.12; SizeX_mm: 3.2; SizeY_mm: 1.6; SizeZ_mm: 1.35; EIA_Code: E192; U/M: EA; AEC Category: Q200; AEC Qualified: Y; AEC Grade: 1; CompType: Resistor; PackageReference: 1206; RoHS: Y; Res_ohm: 100k; Value_Code: 100k; Tolerance_%: 0.1%; Value1: 0.1%; MountType: SMT; Technology: Thin Film; Published: 2008-06-26; Publisher: Texas Instruments; LatestRevisionDate: 2017-03-09; ComponentLink1Description: Datasheet link; ComponentLink1URL: http://www.vishay.com/docs/28758/tnpw_e3.pdf; Supplier 1: Digi-Key; Supplier Part Number 1: TNP100KACCT-ND; Supplier 2: Newark; Supplier Part Number 2: 27K5908; Supplier 3: Mouser; Supplier Part Number 3: 71-TNPW1206100KBEEA
footprint 1206 (1206 from SM-752 data)
footprint 1206L (1206 from SM-752 data)
footprint 1206M (1206 from SM-752 data)
pins: 1, 2

## CMP-0020833-2
designator R?, comment ValueDisplayed: 0  (hidden comment: 5106)
RES, 0, 1%, 0.5 W, 0805; Manufacturer: Keystone; Power_W: 500mW; TempCo: ppm/C; U/M: EA; Value: 0; SizeX_mm: 2; SizeY_mm: 1.25; SizeZ_mm: 0.84; Value2: 0.5W; SizeArea_mm2: 2.5; CompType: Resistor; AEC Qualified: N; AEC Category: Q200; Publisher: Texas Instruments; Published: 2008-06-26; Value_Code: 0; RoHS: Y; Value1: 1%; MountType: SMT; Supplier 1: Digi-Key; PackageReference: 0805; Tolerance_%: 1%; Res_ohm: 0; LatestRevisionDate: 2017-03-09; PartNumber: 5106; ComponentLink1Description: Datasheet link; AEC Grade: N/A; Supplier Part Number 1: 36-5106CT-ND; Technology: Metal Element; ComponentLink1URL: http://www.keyelco.com/product-pdf.cfm?p=14039
footprint 5106 (Keystone)
pins: 1, 2

## CMP-0022725-3
designator R?, comment ValueDisplayed: 0.1  (hidden comment: ERJ-L03KF10CV)
RES, 0.1, 1%, 0.1 W, AEC-Q200 Grade 1, 0603; Manufacturer: Panasonic; Power_W: 100mW; TempCo: 200 ppm/C; Value_Code: R100; Value: 0.1; EIA_Code: E96; SizeX_mm: 1.6; SizeY_mm: 0.8; SizeZ_mm: 1; Value2: 0.1W; SizeArea_mm2: 1.28; CompType: Resistor; AEC Qualified: Y; AEC Category: Q200; SizeAreaWB_mm2: 4.68; ComponentLink1URL: https://industrial.panasonic.com/cdbs/www-data/pdf/RDN0000/AOA0000C313.pdf; Supplier Part Number 2: 667-ERJ-L03KF10CV; Supplier 2: Mouser; Supplier Part Number 3: 1577550; Supplier 3: Farnell; RoHS: Y; Value1: 1%; MountType: SMT; Supplier 1: Digi-Key; PackageReference: 0603; Tolerance_%: 1%; Res_ohm: 0.1; PartNumber: ERJ-L03KF10CV; ComponentLink1Description: Datasheet link; Supplier Part Number 1: P100LJCT-ND; Technology: Thick Film; AEC Grade: 1
footprint 0603 (0603 from SM-752 data)
footprint 0603M (0603 from SM-752 data)
footprint 0603L (0603 from SM-752 data)
footprint 0603_HV (Ernesto recommended land pattern.  26 mil between pads.)
footprint 0603S
pins: 1, 2

## CMP-0023339-3
designator R?, comment Res_ohm: 0.02  (hidden comment: RL0603FR-070R02L)
RES, 0.02, 1%, 0.1 W, AEC-Q200 Grade 0, 0603; Manufacturer: Yageo America; Power_W: 100mW; TempCo: 1500 ppm/C; Value_Code: R020; U/M: EA; Value: 0.02; EIA_Code: E96; SizeX_mm: 1.6; SizeY_mm: 0.8; SizeZ_mm: 1; Value2: 0.1W; SizeArea_mm2: 1.28; CompType: Resistor; AEC Qualified: Y; AEC Grade: 0; AEC Category: Q200; Supplier Part Number 2: 603-RL0603FR-070R02L; Publisher: Texas Instruments; Supplier 2: Mouser; Published: 2008-06-26; RoHS: Y; Value1: 1%; MountType: SMT; Supplier 1: Digi-Key; PackageReference: 0603; Tolerance_%: 1%; LatestRevisionDate: 2017-03-09; PartNumber: RL0603FR-070R02L; ComponentLink1Description: Datasheet link; Supplier Part Number 1: 311-.02QCT-ND; Technology: Thick Film; ComponentLink1URL: http://www.yageo.com/documents/recent/PYu-RL_Group_521_RoHS_L_1.pdf
footprint 0603 (0603 from SM-752 data)
footprint 0603_HV (Ernesto recommended land pattern.  26 mil between pads.)
footprint 0603L (0603 from SM-752 data)
footprint 0603S
footprint 0603M (0603 from SM-752 data)
pins: 1, 2

## CMP-0023528-3
designator R?, comment ValueDisplayed: 3.60k  (hidden comment: RG1608P-362-B-T5)
RES, 3.60 k, 0.1%, 0.1 W, 0603; Manufacturer: Susumu Co Ltd; Power_W: 100mW; TempCo: 25 ppm/C; Value_Code: 3k60; U/M: EA; Value: 3.60k; Res_ohm: 3.6k; SizeX_mm: 1.6; SizeY_mm: 0.8; SizeZ_mm: 1; Value2: 0.1W; SizeArea_mm2: 1.28; CompType: Resistor; VDC_V: 75V; AEC Category: Q200; ComponentLink1URL: http://www.susumu.co.jp/english/pdf/products-j01-01.pdf; Supplier Part Number 2: 754-RG1608P-362-BT5; Publisher: Texas Instruments; Supplier 2: Mouser; Published: 2008-06-26; RoHS: Y; Value1: 0.1%; MountType: SMT; Supplier 1: Digi-Key; PackageReference: 0603; Tolerance_%: 0.1%; LatestRevisionDate: 2017-03-09; PartNumber: RG1608P-362-B-T5; AEC Qualified: ?; ComponentLink1Description: Datasheet link; Supplier Part Number 1: RG16P3.6KBCT-ND; Technology: Metal Film
footprint 0603 (0603 from SM-752 data)
footprint 0603_HV (Ernesto recommended land pattern.  26 mil between pads.)
footprint 0603L (0603 from SM-752 data)
footprint 0603S
footprint 0603M (0603 from SM-752 data)
pins: 1, 2

## CMP-0023767-2
designator R?, comment ValueDisplayed: 150  (hidden comment: RT0603BRD07150RL)
RES, 150, 0.1%, 0.1 W, 0603; Manufacturer: Yageo America; Power_W: 100mW; TempCo: 25 ppm/C; Value_Code: 150R; U/M: EA; Value: 150; EIA_Code: E192; SizeX_mm: 1.6; SizeY_mm: 0.8; SizeZ_mm: 1; Value2: 0.1W; SizeArea_mm2: 1.28; CompType: Resistor; VDC_V: 75V; AEC Category: Q200; Publisher: Texas Instruments; Published: 2008-06-26; RoHS: Y; Value1: 0.1%; MountType: SMT; PackageReference: 0603; Tolerance_%: 0.1%; Res_ohm: 150; LatestRevisionDate: 2017-03-09; PartNumber: RT0603BRD07150RL; AEC Qualified: ?; ComponentLink1Description: Datasheet link; Technology: Thin Film; ComponentLink1URL: http://www.yageo.com/pdf/PYu-RT_1-to-0.05_RoHS_L_3.pdf
footprint 0603 (0603 from SM-752 data)
footprint 0603_HV (Ernesto recommended land pattern.  26 mil between pads.)
footprint 0603L (0603 from SM-752 data)
footprint 0603S
footprint 0603M (0603 from SM-752 data)
pins: 1, 2

## CMP-0025693-1
designator R?, comment ValueDisplayed: 49.9  (hidden comment: TNPW060349R9BEEA)
RES, 49.9, 0.1%, 0.1 W, AEC-Q200 Grade 1, 0603; Manufacturer: Vishay-Dale; Power_W: 100mW; TempCo: 25 ppm/C; Value_Code: 49R9; U/M: EA; Value: 49.9; EIA_Code: E192; SizeX_mm: 1.6; SizeY_mm: 0.85; SizeZ_mm: 0.55; Value2: 0.1W; SizeArea_mm2: 1.36; CompType: Resistor; AEC Qualified: Y; VDC_V: 75V; AEC Grade: 1; AEC Category: Q200; ComponentLink1URL: http://www.vishay.com/docs/28758/tnpw_e3.pdf; Supplier Part Number 2: 05R4782; Publisher: Texas Instruments; Supplier 2: Newark; Supplier Part Number 3: 71-TNPW060349R9BEEA; Supplier 3: Mouser; Published: 2008-06-26; RoHS: Y; Value1: 0.1%; MountType: SMT; Supplier 1: Digi-Key; PackageReference: 0603; Tolerance_%: 0.1%; Res_ohm: 49.9; LatestRevisionDate: 2017-03-09; PartNumber: TNPW060349R9BEEA; ComponentLink1Description: Datasheet link; Supplier Part Number 1: 541-2031-1-ND; Technology: Thin Film
footprint TNPW0603 (Vishay)
pins: 1, 2

## CMP-0025951-3
designator R?, comment ValueDisplayed: 100  (hidden comment: CRCW0402100RFKED)
RES, 100, 1%, 0.063 W, AEC-Q200 Grade 0, 0402; Manufacturer: Vishay-Dale; Power_W: 63mW; TempCo: 100 ppm/C; Value_Code: 100R; Value: 100; EIA_Code: E96; SizeX_mm: 1; SizeY_mm: 0.5; SizeZ_mm: 0.6; Value2: 0.063W; CompType: Resistor; AEC Qualified: Y; VDC_V: 50V; AEC Category: Q200; AEC Grade: 0; Supplier Part Number 2: 52K6609; Supplier 2: Newark; Supplier Part Number 3: 71-CRCW0402-100-E3; Supplier 3: Mouser; RoHS: E; Value1: 1%; MountType: SMT; Supplier 1: Digi-Key; PackageReference: 0402; Tolerance_%: 1%; Res_ohm: 100; SizeArea_mm2: 0.5; PartNumber: CRCW0402100RFKED; ComponentLink1Description: Datasheet link; Supplier Part Number 1: 541-100LCT-ND; Technology: Thick Film; ComponentLink1URL: http://www.vishay.com/docs/20035/dcrcwe3.pdf
footprint 0402 (0402 from SM-752 data)
footprint 0402S (Based on C0402S footprint from PADS legacy)
footprint 0402L (0402 from SM-752 data)
footprint 0402M (0402 from SM-752 data)
pins: 1, 2

## CMP-0025985-3
designator R?, comment ValueDisplayed: 121  (hidden comment: CRCW0402121RFKED)
RES, 121, 1%, 0.063 W, AEC-Q200 Grade 0, 0402; Manufacturer: Vishay-Dale; Power_W: 63mW; TempCo: 100 ppm/C; Value_Code: 121R; Value: 121; EIA_Code: E96; SizeX_mm: 1; SizeY_mm: 0.5; SizeZ_mm: 0.6; Value2: 0.063W; CompType: Resistor; AEC Qualified: Y; VDC_V: 50V; AEC Category: Q200; AEC Grade: 0; Supplier Part Number 2: 52K6661; Supplier 2: Newark; Supplier Part Number 3: 71-CRCW0402-121-E3; Supplier 3: Mouser; RoHS: E; Value1: 1%; MountType: SMT; Supplier 1: Digi-Key; PackageReference: 0402; Tolerance_%: 1%; Res_ohm: 121; SizeArea_mm2: 0.5; PartNumber: CRCW0402121RFKED; ComponentLink1Description: Datasheet link; Supplier Part Number 1: 541-121LCT-ND; Technology: Thick Film; ComponentLink1URL: http://www.vishay.com/docs/20035/dcrcwe3.pdf
footprint 0402 (0402 from SM-752 data)
footprint 0402S (Based on C0402S footprint from PADS legacy)
footprint 0402L (0402 from SM-752 data)
footprint 0402M (0402 from SM-752 data)
pins: 1, 2

## CMP-0025990-3
designator R?, comment ValueDisplayed: 12.0k  (hidden comment: CRCW040212K0FKED)
RES, 12.0 k, 1%, 0.063 W, AEC-Q200 Grade 0, 0402; Manufacturer: Vishay-Dale; Power_W: 63mW; TempCo: 100 ppm/C; Value_Code: 12k0; Value: 12.0k; Res_ohm: 12k; SizeX_mm: 1; SizeY_mm: 0.5; SizeZ_mm: 0.6; Value2: 0.063W; CompType: Resistor; AEC Qualified: Y; VDC_V: 50V; AEC Grade: 0; AEC Category: Q200; Supplier Part Number 2: 52K6646; Supplier 2: Newark; Supplier Part Number 3: 71-CRCW0402-12K-E3; Supplier 3: Mouser; RoHS: E; Value1: 1%; MountType: SMT; Supplier 1: Digi-Key; PackageReference: 0402; Tolerance_%: 1%; SizeArea_mm2: 0.5; PartNumber: CRCW040212K0FKED; ComponentLink1Description: Datasheet link; Supplier Part Number 1: 541-12.0KLCT-ND; Technology: Thick Film; ComponentLink1URL: http://www.vishay.com/docs/20035/dcrcwe3.pdf
footprint 0402 (0402 from SM-752 data)
footprint 0402S (Based on C0402S footprint from PADS legacy)
footprint 0402L (0402 from SM-752 data)
footprint 0402M (0402 from SM-752 data)
pins: 1, 2

## CMP-0026039-3
designator R?, comment ValueDisplayed: 169  (hidden comment: CRCW0402169RFKED)
RES, 169, 1%, 0.063 W, AEC-Q200 Grade 0, 0402; Manufacturer: Vishay-Dale; Power_W: 63mW; TempCo: 100 ppm/C; Value_Code: 169R; Value: 169; EIA_Code: E96; SizeX_mm: 1; SizeY_mm: 0.5; SizeZ_mm: 0.6; Value2: 0.063W; CompType: Resistor; AEC Qualified: Y; VDC_V: 50V; AEC Category: Q200; AEC Grade: 0; Supplier Part Number 2: 72M6755; Supplier 2: Newark; Supplier Part Number 3: 71-CRCW0402-169-E3; Supplier 3: Mouser; RoHS: E; Value1: 1%; MountType: SMT; Supplier 1: Digi-Key; PackageReference: 0402; Tolerance_%: 1%; Res_ohm: 169; SizeArea_mm2: 0.5; PartNumber: CRCW0402169RFKED; ComponentLink1Description: Datasheet link; Supplier Part Number 1: 541-169LCT-ND; Technology: Thick Film; ComponentLink1URL: http://www.vishay.com/docs/20035/dcrcwe3.pdf
footprint 0402 (0402 from SM-752 data)
footprint 0402S (Based on C0402S footprint from PADS legacy)
footprint 0402L (0402 from SM-752 data)
footprint 0402M (0402 from SM-752 data)
pins: 1, 2

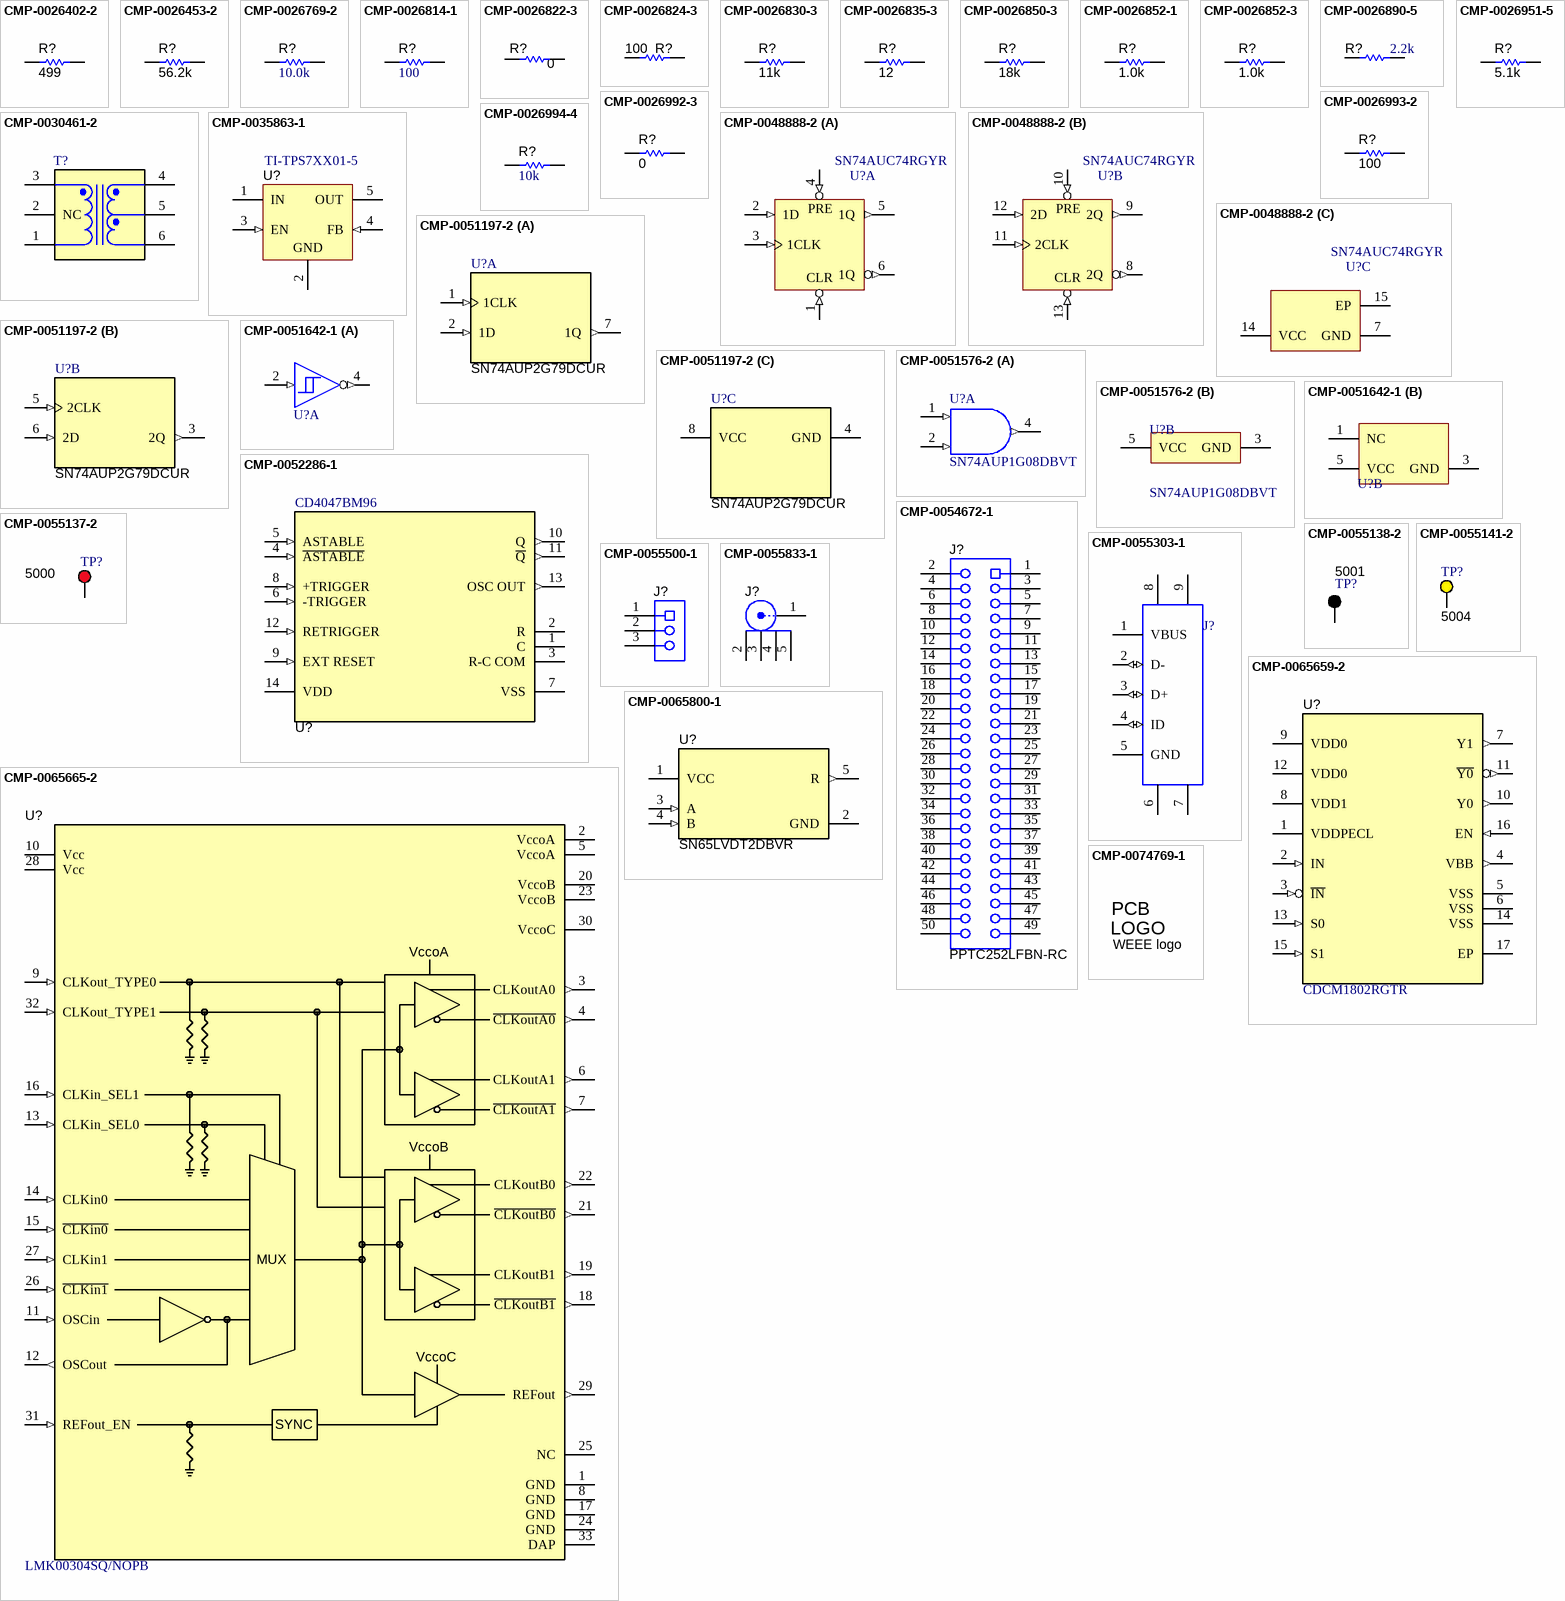
[diagram p1: symbols CMP-0026402-2 to CMP-0074769-1]

## CMP-0026402-2
designator R?, comment ValueDisplayed: 499  (hidden comment: Resistor)
RES, 499, 1%, 0.063 W, AEC-Q200 Grade 0, 0402; PartNumber: CRCW0402499RFKED; Manufacturer: Vishay-Dale; Value: 499; Value_Code: 499R; Power_W: 63mW; Value2: 0.063W; VDC_V: 50V; TempCo: 100 ppm/C; SizeArea_mm2: 0.5; SizeX_mm: 1; SizeZ_mm: 0.6; EIA_Code: E96; AEC Category: Q200; AEC Qualified: Y; AEC Grade: 0; CompType: Resistor; PackageReference: 0402; RoHS: E; Res_ohm: 499; Tolerance_%: 1%; Value1: 1%; MountType: SMT; Technology: Thick Film; SizeY_mm: 0.5; ComponentLink1Description: Datasheet link; ComponentLink1URL: http://www.vishay.com/docs/20035/dcrcwe3.pdf; Supplier 1: Digi-Key; Supplier Part Number 1: 541-499LCT-ND; Supplier 2: Newark; Supplier Part Number 2: 52K7117; Supplier 3: Mouser; Supplier Part Number 3: 71-CRCW0402-499-E3
footprint 0402 (0402 from SM-752 data)
footprint 0402S (Based on C0402S footprint from PADS legacy)
footprint 0402L (0402 from SM-752 data)
footprint 0402M (0402 from SM-752 data)
pins: 1, 2

## CMP-0026453-2
designator R?, comment ValueDisplayed: 56.2k  (hidden comment: Resistor)
RES, 56.2 k, 1%, 0.063 W, AEC-Q200 Grade 0, 0402; PartNumber: CRCW040256K2FKED; Manufacturer: Vishay-Dale; Value: 56.2k; Value_Code: 56k2; Power_W: 63mW; Value2: 0.063W; VDC_V: 50V; TempCo: 100 ppm/C; SizeArea_mm2: 0.5; SizeX_mm: 1; SizeZ_mm: 0.6; EIA_Code: E96; AEC Category: Q200; AEC Qualified: Y; AEC Grade: 0; CompType: Resistor; PackageReference: 0402; RoHS: E; Res_ohm: 56.2k; Tolerance_%: 1%; Value1: 1%; MountType: SMT; Technology: Thick Film; SizeY_mm: 0.5; ComponentLink1Description: Datasheet link; ComponentLink1URL: http://www.vishay.com/docs/20035/dcrcwe3.pdf; Supplier 1: Digi-Key; Supplier Part Number 1: 541-56.2KLCT-ND; Supplier 2: Newark; Supplier Part Number 2: 52K7159; Supplier 3: Mouser; Supplier Part Number 3: 71-CRCW0402-56.2K-E3
footprint 0402 (0402 from SM-752 data)
footprint 0402S (Based on C0402S footprint from PADS legacy)
footprint 0402L (0402 from SM-752 data)
footprint 0402M (0402 from SM-752 data)
pins: 1, 2

## CMP-0026769-2
designator R?, comment ValueDisplayed: 10.0k  (hidden comment: CRCW040210K0DHEDP)
RES, 10.0 k, 0.5%, 0.063 W, AEC-Q200 Grade 0, 0402; Manufacturer: Vishay-Dale; Power_W: 63mW; TempCo: 50 ppm/C; Value_Code: 10k0; Value: 10.0k; EIA_Code: E192; Res_ohm: 10k; SizeX_mm: 1; SizeY_mm: 0.5; SizeZ_mm: 0.6; Value2: 0.063W; CompType: Resistor; AEC Qualified: Y; VDC_V: 50V; AEC Category: Q200; AEC Grade: 0; ComponentLink1URL: http://www.vishay.com/docs/20036/dcrcwpe3.pdf; Supplier Part Number 2: 51X8307; Supplier 2: Newark; Supplier Part Number 3: 71-CRCW040210K0DHEDP; Supplier 3: Mouser; RoHS: E; Value1: 0.5%; MountType: SMT; Supplier 1: Digi-Key; PackageReference: 0402; Tolerance_%: 0.5%; SizeArea_mm2: 0.5; PartNumber: CRCW040210K0DHEDP; ComponentLink1Description: Datasheet link; Supplier Part Number 1: 541-10KAVCT-ND; Technology: Thick Film
footprint 0402 (0402 from SM-752 data)
footprint 0402S (Based on C0402S footprint from PADS legacy)
footprint 0402L (0402 from SM-752 data)
footprint 0402M (0402 from SM-752 data)
pins: 1, 2

## CMP-0026814-1
designator R?, comment ValueDisplayed: 100  (hidden comment: RG1005P-101-B-T5)
RES, 100, 0.1%, 0.063 W, 0402; Manufacturer: Susumu Co Ltd; Power_W: 63mW; TempCo: 25 ppm/C; Value_Code: 100R; U/M: EA; Value: 100; SizeX_mm: 1; SizeY_mm: 0.5; SizeZ_mm: 0.6; Value2: 0.063W; CompType: Resistor; AEC Category: Q200; EIA_Code: E192; ComponentLink1URL: http://www.susumu-usa.com/pdf/RG_Data_Sheet.pdf; Supplier Part Number 2: 85K1457; Publisher: Texas Instruments; Supplier 2: Newark; Supplier Part Number 3: 754-RG1005P-101-B-T5; Supplier 3: Mouser; Published: 2008-06-26; RoHS: Y; Value1: 0.1%; MountType: SMT; Supplier 1: Digi-Key; PackageReference: 0402; Tolerance_%: 0.1%; Res_ohm: 100; SizeArea_mm2: 0.5; LatestRevisionDate: 2017-03-09; PartNumber: RG1005P-101-B-T5; AEC Qualified: ?; ComponentLink1Description: Datasheet link; Supplier Part Number 1: RG10P100BCT-ND; Technology: Thin Film
footprint 0402 (0402 from SM-752 data)
footprint 0402S (Based on C0402S footprint from PADS legacy)
footprint 0402L (0402 from SM-752 data)
footprint 0402M (0402 from SM-752 data)
pins: 1, 2

## CMP-0026822-3
designator R?, comment ValueDisplayed: 0  (hidden comment: Resistor)
RES, 0, 5%, 0.063 W, AEC-Q200 Grade 0, 0402; PartNumber: CRCW04020000Z0ED; Manufacturer: Vishay-Dale; Value: 0; Value_Code: 0000; Power_W: 63mW; Value2: 0.063W; VDC_V: 50V; TempCo: 200 ppm/C; EIA_Code: E24; AEC Category: Q200; AEC Qualified: Y; SizeArea_mm2: 0.5; SizeX_mm: 1; SizeZ_mm: 0.6; CompType: Resistor; PackageReference: 0402; RoHS: E; Res_ohm: 0; Tolerance_%: 5%; Value1: 5%; MountType: SMT; Technology: Thick Film; ComponentLink1Description: Datasheet link; ComponentLink1URL: http://www.vishay.com/docs/20035/dcrcwe3.pdf; Supplier 1: Digi-Key; Supplier Part Number 1: 541-0.0JCT-ND; Supplier 2: Newark; Supplier Part Number 2: 52K6543; Supplier 3: Mouser; Supplier Part Number 3: 71-CRCW0402-0-E3; AEC Grade: 0; SizeY_mm: 0.5
footprint 0402 (0402 from SM-752 data)
footprint 0402S (Based on C0402S footprint from PADS legacy)
footprint 0402L (0402 from SM-752 data)
footprint 0402M (0402 from SM-752 data)
pins: 1, 2

## CMP-0026824-3
designator R?, comment Res_ohm: 100  (hidden comment: Resistor)
RES, 100, 5%, 0.063 W, AEC-Q200 Grade 0, 0402; PartNumber: CRCW0402100RJNED; Manufacturer: Vishay-Dale; Value: 100; Value_Code: 100R; Power_W: 63mW; Value2: 0.063W; VDC_V: 50V; TempCo: 200 ppm/C; SizeArea_mm2: 0.5; SizeX_mm: 1; SizeZ_mm: 0.6; EIA_Code: E24; AEC Category: Q200; AEC Qualified: Y; AEC Grade: 0; CompType: Resistor; PackageReference: 0402; RoHS: E; Tolerance_%: 5%; Value1: 5%; MountType: SMT; Technology: Thick Film; SizeY_mm: 0.5; ComponentLink1Description: Datasheet link; ComponentLink1URL: http://www.vishay.com/docs/20035/dcrcwe3.pdf; Supplier 1: Digi-Key; Supplier Part Number 1: 541-100JCT-ND; Supplier 2: Newark; Supplier Part Number 2: 59M6700; Supplier 3: Mouser; Supplier Part Number 3: 71-CRCW0402J-100-E3; ValueDisplayed: 100
footprint 0402 (0402 from SM-752 data)
footprint 0402S (Based on C0402S footprint from PADS legacy)
footprint 0402L (0402 from SM-752 data)
footprint 0402M (0402 from SM-752 data)
pins: 1, 2

## CMP-0026830-3
designator R?, comment ValueDisplayed: 11k  (hidden comment: Resistor)
RES, 11 k, 5%, 0.063 W, AEC-Q200 Grade 0, 0402; PartNumber: CRCW040211K0JNED; Manufacturer: Vishay-Dale; Value: 11k; Value_Code: 11k0; Power_W: 63mW; Value2: 0.063W; VDC_V: 50V; TempCo: 200 ppm/C; SizeArea_mm2: 0.5; SizeX_mm: 1; SizeZ_mm: 0.6; EIA_Code: E24; AEC Category: Q200; AEC Qualified: Y; AEC Grade: 0; CompType: Resistor; PackageReference: 0402; RoHS: E; Res_ohm: 11k; Tolerance_%: 5%; Value1: 5%; MountType: SMT; Technology: Thick Film; SizeY_mm: 0.5; ComponentLink1Description: Datasheet link; ComponentLink1URL: http://www.vishay.com/docs/20035/dcrcwe3.pdf; Supplier 1: Digi-Key; Supplier Part Number 1: 541-11KJCT-ND
footprint 0402 (0402 from SM-752 data)
footprint 0402S (Based on C0402S footprint from PADS legacy)
footprint 0402L (0402 from SM-752 data)
footprint 0402M (0402 from SM-752 data)
pins: 1, 2

## CMP-0026835-3
designator R?, comment ValueDisplayed: 12  (hidden comment: CRCW040212R0JNED)
RES, 12, 5%, 0.063 W, AEC-Q200 Grade 0, 0402; Manufacturer: Vishay-Dale; Power_W: 63mW; TempCo: 200 ppm/C; Value_Code: 12R0; Value: 12; EIA_Code: E24; SizeX_mm: 1; SizeY_mm: 0.5; SizeZ_mm: 0.6; Value2: 0.063W; CompType: Resistor; AEC Qualified: Y; VDC_V: 50V; AEC Category: Q200; AEC Grade: 0; Supplier Part Number 2: 59M6701; Supplier 2: Newark; Supplier Part Number 3: 71-CRCW0402J-12-E3; Supplier 3: Mouser; RoHS: E; Value1: 5%; MountType: SMT; Supplier 1: Digi-Key; PackageReference: 0402; Tolerance_%: 5%; Res_ohm: 12; SizeArea_mm2: 0.5; PartNumber: CRCW040212R0JNED; ComponentLink1Description: Datasheet link; Supplier Part Number 1: 541-12JCT-ND; Technology: Thick Film; ComponentLink1URL: http://www.vishay.com/docs/20035/dcrcwe3.pdf
footprint 0402 (0402 from SM-752 data)
footprint 0402S (Based on C0402S footprint from PADS legacy)
footprint 0402L (0402 from SM-752 data)
footprint 0402M (0402 from SM-752 data)
pins: 1, 2